# Altium footprint library Arduino_UNO_PCBlib.PcbLib: 27 footprints (part 2 of 2)
Each footprint in its own frame and in the unit in brackets; x right, y up, seen from the top. Pads: shape width x height; smd on the part's side, far side on the other; paste and mask are expansions set on the pad; w line width, h text height; cw(c..) or ccw(c..) is an arc to the next point about the centre after c.
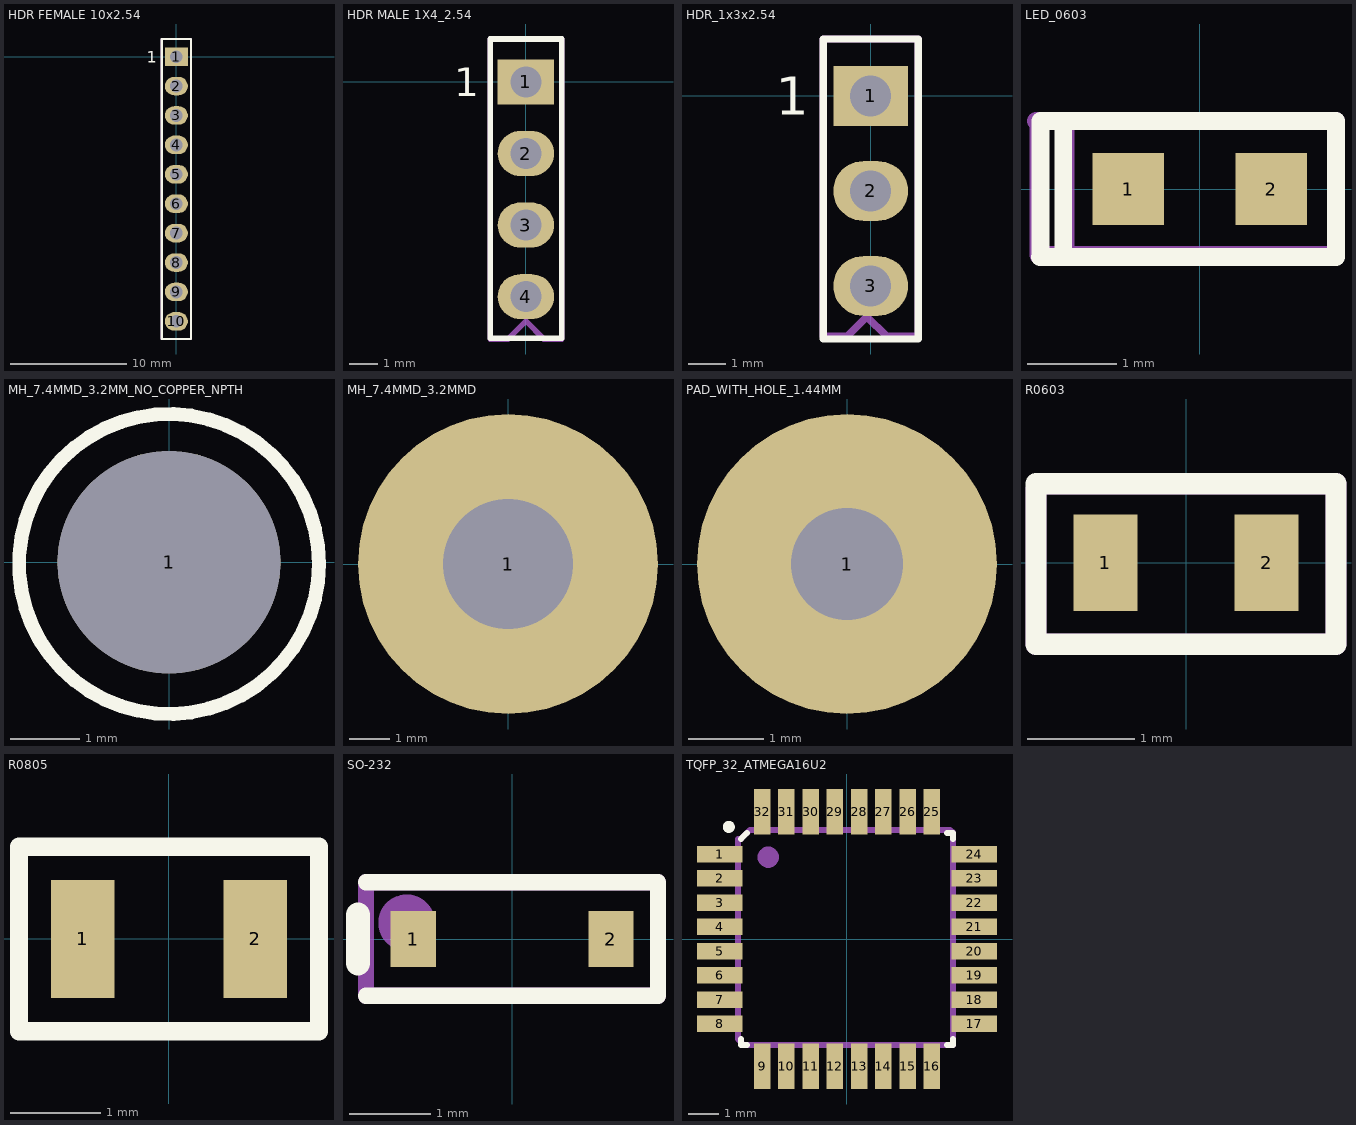
[diagram p1: the footprints below, top view; thin cyan lines are the x and y axes]

## HDR FEMALE 10x2.54 [mm]
pads (10):
  rect 2x1.6 hole 1.1: 1(0,0)
  oval 2x1.6 hole 1.1: 2(0,-2.54) 3(0,-5.08) 4(0,-7.62) 5(0,-10.16) 6(0,-12.7) 7(0,-15.24) 8(0,-17.78) 9(0,-20.32) 10(0,-22.86)
Top Overlay:
  lines w0.2: -1.27,-24.384 1.27,-24.384 1.27,1.524 -1.27,1.524 -1.27,-24.384
  text "1" at -2.54,-0.508 h1.02
Mechanical 29:
  circle w0.5: c0,0 r0.254
  lines w0.2: -1.27,-24.384 -1.27,1.524 1.27,1.524 1.27,-1.016 1.27,-24.384 -1.27,-24.384
  text ".Designator" at 0.508,-18.796 h1.52
3D body "User Library-zl262-10s_p2-54_l25-9_w2-54_h8-5.step": height 8.5, standoff -3, extent -1.27,-24.38 1.27,1.52

## HDR MALE 1X4_2.54 [mm]
pads (4):
  rect 2x1.6 hole 1.1: 1(0,0)
  oval 2x1.6 hole 1.1: 2(0,-2.54) 3(0,-5.08) 4(0,-7.62)
Top Overlay:
  lines w0.2: -1.27,-9.1 -1.27,1.524 1.27,1.524 1.27,-9.1 -1.27,-9.1
  text "1" at -2.54,-0.508 h1.02
Mechanical 29:
  circle w0.5: c0,0 r0.254
  lines w0.2: -1.27,-9.124 -0.635,-9.124 0,-8.489 0.635,-9.124 1.27,-9.124 ; -1.27,-9.1 -1.27,1.524 1.27,1.524 1.27,-1.016 1.27,-9.1
  text ".Designator" at 0.6,-8.6 h1.52
3D body "User Library-Header_Male_4Pin.STEP": height 8.54, standoff -3, extent -1.245,-8.89 1.245,1.27

## HDR_1x3x2.54 [mm]
pads (3):
  rect 2x1.6 hole 1.1: 1(0,0)
  oval 2x1.6 hole 1.1: 2(0,-2.54) 3(0,-5.08)
Top Overlay:
  lines w0.2: -1.27,-6.5 -1.27,1.524 1.27,1.524 1.27,-6.5 -1.27,-6.5
  text "1" at -2.54,-0.508 h1.02
Mechanical 29:
  circle w0.5: c0,0 r0.254
  lines w0.2: -1.27,-6.429 -1.27,1.524 1.27,1.524 1.27,-1.016 1.27,-6.429 ; -1.264,-6.429 -0.629,-6.429 -0.1,-5.9 0.429,-6.429 1.276,-6.429
  text ".Designator" at 0.429,-6 h1.52
3D body "M20-9990345--3DModel-STEP-56544.STEP": height 8.65, standoff -2.99, extent -1.27,-6.31 1.27,1.31

## LED_0603 [mm]
pads (2):
  rect 0.8x0.8 smd: 1(-0.8,0) 2(0.8,0)
Top Overlay:
  lines w0.2: -1.524,-0.762 -1.783,-0.762 -1.778,-0.747 -1.778,0.762 -1.524,0.762 ; -1.524,-0.762 -1.524,0.762 ; -1.524,-0.762 1.524,-0.762 1.524,0.762 -1.524,0.762
Mechanical 29:
  lines w0.2: -1.829,0.762 1.524,0.762 1.524,-0.737 -1.803,-0.737 -1.803,0.737 ; -1.499,-0.686 -1.499,0.762
  text "'.Designator'String" at -0.991,-0.279 h0.51
3D body "User Library-LED SMD 0603 super red.step": height 0.65, standoff 0, extent -0.876,-0.4 0.824,0.4

## MH_7.4MMD_3.2MM_NO_COPPER_NPTH [mm]
pads (1):
  round 3.2 hole 3.2 unplated: 1(0,0)
Top Overlay:
  circle w0.2: c0,-0.025 r2.156

## MH_7.4MMD_3.2MMD [mm]
pads (1):
  round 7.4 hole 3.2: 1(0,0)

## PAD_WITH_HOLE_1.44MM [mm]
pads (1):
  round 4 hole 1.5: 1(0,0)

## R0603 [mm]
pads (2):
  rect 0.6x0.9 smd: 1(-0.75,0) 2(0.75,0)
Top Overlay:
  lines w0.2: -1.397,-0.762 1.397,-0.762 1.397,0.737 -1.397,0.737 -1.397,-0.762
Mechanical 29:
  lines w0.2: -1.397,-0.762 -1.397,0.686 -1.346,0.737 1.397,0.737 1.397,-0.762 -1.397,-0.762
  text "'.Designator'" at 0,0 h1.52
3D body "RESC1608X50N EIA 0603.step": height 0.51, standoff 0.01, extent -0.8,-0.4 0.8,0.4

## R0805 [mm]
pads (2):
  rect 0.7x1.3 smd: 1(-0.95,0) 2(0.95,0)
Top Overlay:
  lines w0.2: -1.651,-1.016 -1.651,1.016 1.651,1.016 1.651,-1.016 -1.651,-1.016
3D body "RESC2012X60N EIA 0805.step": height 0.61, standoff 0.01, extent -1,-0.6 1,0.6

## SO-232 [mil]
pads (2):
  rect 22x27 smd: 1(-48,0) 2(48,0)
Top Overlay:
  lines w7.87: -70.87,-27.56 70.87,-27.56 70.87,27.56 -70.87,27.56
  lines w11.81: -74.8,-11.81 -74.8,11.81
Mechanical 29:
  circle w19.68: c-51.18,7.87 r3.94
  lines w7.87: -70.87,-27.56 -70.87,27.56 70.87,27.56 70.87,-27.56 -70.87,-27.56
3D body "User Library-SOD323-1.step": height 43.31, standoff 0, extent -51.17,-26.57 51.19,26.58

## TQFP_32_ATMEGA16U2 [mm]
pads (32):
  rect 1.5x0.55 smd mask+0.06: 1(-4.2,2.8) 2(-4.2,2) 3(-4.2,1.2) 4(-4.2,0.4) 5(-4.2,-0.4) 6(-4.2,-1.2) 7(-4.2,-2) 8(-4.2,-2.8) 17(4.2,-2.8) 18(4.2,-2) 19(4.2,-1.2) 20(4.2,-0.4) 21(4.2,0.4) 22(4.2,1.2) 23(4.2,2) 24(4.2,2.8)
  rect 0.55x1.5 smd mask+0.06: 9(-2.8,-4.2) 10(-2,-4.2) 11(-1.2,-4.2) 12(-0.4,-4.2) 13(0.4,-4.2) 14(1.2,-4.2) 15(2,-4.2) 16(2.8,-4.2) 25(2.8,4.2) 26(2,4.2) 27(1.2,4.2) 28(0.4,4.2) 29(-0.4,4.2) 30(-1.2,4.2) 31(-2,4.2) 32(-2.8,4.2)
Top Overlay:
  circle w0.2: c-3.9,3.7 r0.1
  lines w0.2: -3.5,-3.3 -3.5,-3.5 -3.3,-3.5 ; -3.5,3.3 -3.3,3.5 ; 3.3,-3.5 3.5,-3.5 3.5,-3.3 ; 3.3,3.5 3.5,3.5 3.5,3.3
Mechanical 29:
  circle w0.5: c-2.6,2.7 r0.1
  lines w0.2: -3.6,-3.3 -3.4,-3.5 3.5,-3.5 3.5,3.5 3.4,3.6 -3.2,3.6 -3.5,3.3 -3.6,3.3 -3.6,-3.3
  text ".Designator" at 0,0 h1.52
3D body "User Library-TQFP32-4.STEP": height 1.09, standoff -0.06, extent -4.512,-4.512 4.512,4.512